# Altium schematic symbol library SCH - Interface - ISO5141.SchLib: 1 symbol
Pins are listed as number, name and electrical type; pins without a type are passive.

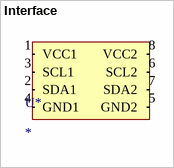
[diagram p0: symbol Interface]

## Interface
designator U*
pins: 1 VCC1 (in), 2 SDA1 (in), 3 SCL1 (in), 4 GND1 (in), 5 GND2 (in), 6 SCL2 (in), 7 SDA2 (in), 8 VCC2 (in)